# Altium footprint library 282837-2.PcbLib: 2 footprints
Each footprint in its own frame and in the unit in brackets; x right, y up, seen from the top. Pads: shape width x height; smd on the part's side, far side on the other; paste and mask are expansions set on the pad; w line width, h text height; cw(c..) or ccw(c..) is an arc to the next point about the centre after c.
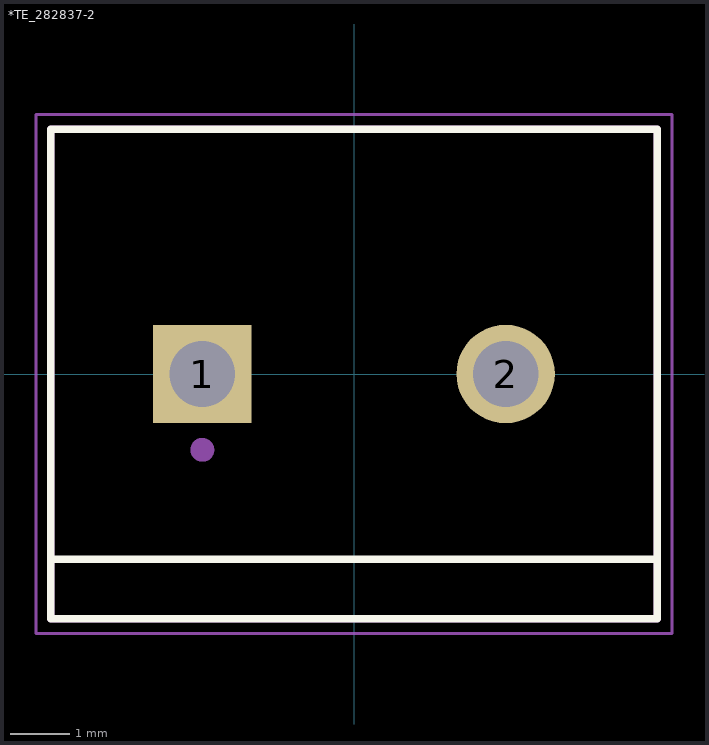
[diagram p0: the footprints below, top view; thin cyan lines are the x and y axes]

## *TE_282837-2 [mm]
pads (2):
  rect 1.65x1.65 hole 1.1: 1(-2.54,0)
  round 1.65 hole 1.1: 2(2.54,0)
Top Overlay:
  lines w0.127: -5.08,-3.1 -5.08,-4.1 5.08,-4.1 5.08,-3.1 ; -5.08,-3.1 -5.08,4.1 5.08,4.1 5.08,-3.1 ; -5.08,-3.1 5.08,-3.1
Mechanical 4:
  circle w0.2: c-2.54,-1.27 r0.1
  circle w0.2: c-2.54,-1.27 r0.1
  lines w0.127: -5.08,-4.1 5.08,-4.1 ; -5.08,-4.1 -5.08,4.1 ; -5.08,-4.1 5.08,-4.1 ; -5.08,-4.1 -5.08,4.1 ; -5.08,4.1 5.08,4.1 ; -5.08,4.1 5.08,4.1 ; 5.08,-4.1 5.08,4.1 ; 5.08,-4.1 5.08,4.1
Mechanical 16:
  lines w0.05: -5.33,-4.35 5.33,-4.35 5.33,4.35 -5.33,4.35 -5.33,-4.35
3D body "c-282837-2-g2-3d.stp": height 10.01, standoff -3.49, extent -5.38,-4.1 5.38,4.1

## PCBComponent_1 [mm]